# EAGLE library part 10-UMAX (library custom)
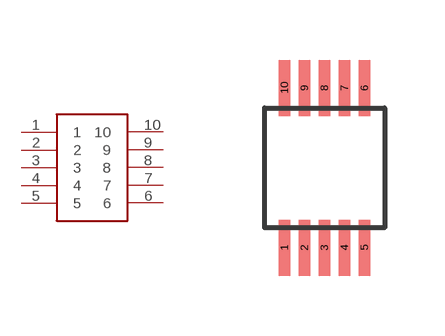
[diagram p6: symbol with the pads of 10-UMAX; footprint 10-UMAX]

Designator prefix -

## 10-UMAX  [10-UMAX]
1  1
2  2
3  3
4  4
5  5
6  6
7  7
8  8
9  9
10  10

## Footprint 10-UMAX (pad centres in mm)
smd 0.28 x 1.4: 1 -1,-2; 2 -0.5,-2; 3 0,-2; 4 0.5,-2; 5 1,-2; 6 1,2; 7 0.5,2; 8 0,2; 9 -0.5,2; 10 -1,2